# EAGLE library part LTC3407A_DFN (library jobygnss)
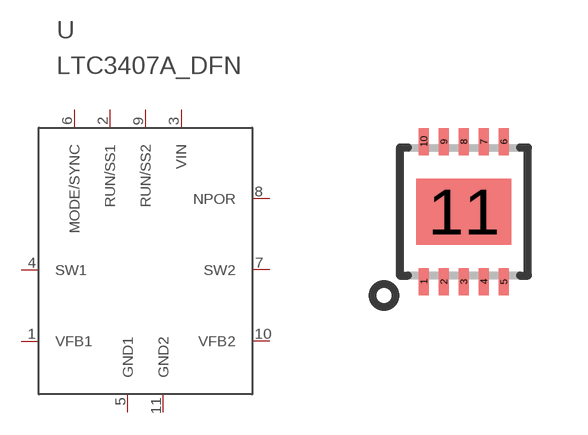
[diagram p13: symbol with the pads of DFN10; footprint DFN10]

Designator prefix -

## LTC3407A_DFN  [DFN10]
1  VFB1
2  RUN/SS1
3  VIN
4  SW1
5  GND1
6  MODE/SYNC
7  SW2
8  NPOR
9  RUN/SS2
10  VFB2
11  GND2

## Footprint DFN10 (pad centres in mm)
smd 0.25 x 0.68: 1 -1,-1.75; 2 -0.5,-1.75; 3 0,-1.75; 4 0.5,-1.75; 5 1,-1.75; 6 1,1.75; 7 0.5,1.75; 8 0,1.75; 9 -0.5,1.75; 10 -1,1.75
smd 2.38 x 1.65: 11 0,0